# EAGLE library part BQ27000 (library Andrew-Electrical)
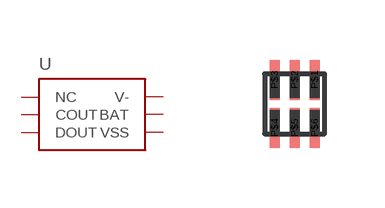
[diagram p4: symbol with the pads of WSON-6; footprint WSON-6]

Designator prefix -

## BQ27000  [WSON-6]
P$1  NC
P$2  COUT
P$3  DOUT
P$4  VSS
P$5  BAT
P$6  V-

## Footprint WSON-6 (pad centres in mm)
smd 0.25 x 1: P$1 0.5,0.6; P$2 0,0.6; P$3 -0.5,0.6; P$4 -0.5,-0.6; P$5 0,-0.6; P$6 0.5,-0.6